# EAGLE library part FH33J-40S-0.5SH (library NewSDR)
0.5mm Pitch Connectors For FPC/FFC Source: Data sheet <http://www.hirose.co.jp/cataloge_hp/e58605370.pdf>
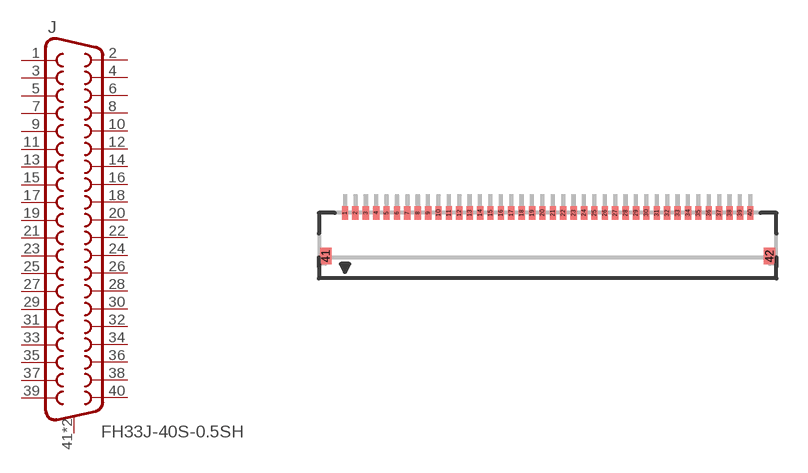
[diagram p225: symbol with the pads of FH33J-40S-0.5SH; footprint FH33J-40S-0.5SH]

Designator prefix J

## FH33J-40S-0.5SH  [FH33J-40S-0.5SH]
1  1  pas
2  2  pas
3  3  pas
4  4  pas
5  5  pas
6  6  pas
7  7  pas
8  8  pas
9  9  pas
10  10  pas
11  11  pas
12  12  pas
13  13  pas
14  14  pas
15  15  pas
16  16  pas
17  17  pas
18  18  pas
19  19  pas
20  20  pas
21  21  pas
22  22  pas
23  23  pas
24  24  pas
25  25  pas
26  26  pas
27  27  pas
28  28  pas
29  29  pas
30  30  pas
31  31  pas
32  32  pas
33  33  pas
34  34  pas
35  35  pas
36  36  pas
37  37  pas
38  38  pas
39  39  pas
40  40  pas
41  41  pas
42  41  pas

## Footprint FH33J-40S-0.5SH (pad centres in mm)
0.5mm Pitch Connectors For FPC/FFC
smd 0.3 x 0.65: 1 -9.75,1.075; 2 -9.25,1.075; 3 -8.75,1.075; 4 -8.25,1.075; 5 -7.75,1.075; 6 -7.25,1.075; 7 -6.75,1.075; 8 -6.25,1.075; 9 -5.75,1.075; 10 -5.25,1.075; 11 -4.75,1.075; 12 -4.25,1.075; 13 -3.75,1.075; 14 -3.25,1.075; 15 -2.75,1.075; 16 -2.25,1.075; 17 -1.75,1.075; 18 -1.25,1.075; 19 -0.75,1.075; 20 -0.25,1.075; 21 0.25,1.075; 22 0.75,1.075; 23 1.25,1.075; 24 1.75,1.075; 25 2.25,1.075; 26 2.75,1.075; 27 3.25,1.075; 28 3.75,1.075; 29 4.25,1.075; 30 4.75,1.075; 31 5.25,1.075; 32 5.75,1.075; 33 6.25,1.075; 34 6.75,1.075; 35 7.25,1.075; 36 7.75,1.075; 37 8.25,1.075; 38 8.75,1.075; 39 9.25,1.075; 40 9.75,1.075
smd 0.55 x 0.8: 41 -10.675,-1; 42 10.675,-1